# EAGLE library part EL7155CSZ (library Intersil_By_element14_Batch_1)
High Performance Pin Driver
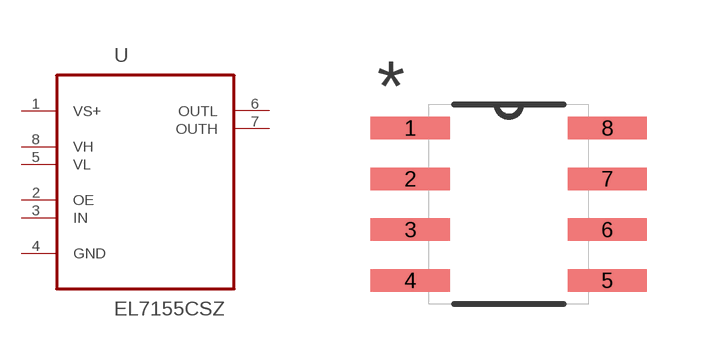
[diagram p65: symbol with the pads of SOIC127P600X175-8N; footprint SOIC127P600X175-8N]

Designator prefix U

## EL7155CSZ (MPN: EL7155CSZ; OC_FARNELL: 1561994; OC_NEWARK: 57K3545; PACKAGE: SOIC-8; SUPPLIER: INTERSIL)  [SOIC127P600X175-8N]
1  VS+  pwr
2  OE  in
3  IN  in
4  GND  pas
5  VL  in
6  OUTL  out
7  OUTH  out
8  VH  in

## Footprint SOIC127P600X175-8N (pad centres in mm)
smd 1.981 x 0.559: 1 -2.464,1.905; 2 -2.464,0.635; 3 -2.464,-0.635; 4 -2.464,-1.905; 5 2.464,-1.905; 6 2.464,-0.635; 7 2.464,0.635; 8 2.464,1.905